# Altium schematic symbol library HYB Modules.SchLib: 2 symbols
Pins are listed as number, name and electrical type; pins without a type are passive.

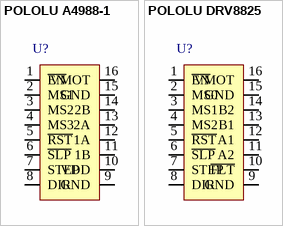
[diagram p0: symbols POLOLU A4988-1 to POLOLU DRV8825]

## POLOLU A4988-1
designator U?
A4988 Stepper Motor Driver Carrier Black Edition Module
footprint POLOLU A4988-1 (A4988 Stepper Motor Driver Carrier Black Edition Module)
pins: 1 ~{EN}, 2 MS1, 3 MS2, 4 MS3, 5 ~{RST}, 6 ~{SLP}, 7 STEP, 8 DIR, 9 GND, 10 VDD, 11 1B, 12 1A, 13 2A, 14 2B, 15 GND, 16 VMOT

## POLOLU DRV8825
designator U?
DRV8825 High Current Stepper Motor Driver Module
footprint POLOLU DRV8825-1 (DRV8825 High Current Stepper Motor Driver Module)
pins: 1 ~{EN}, 2 MS0, 3 MS1, 4 MS2, 5 ~{RST}, 6 ~{SLP}, 7 STEP, 8 DIR, 9 GND, 10 ~{FLT}, 11 A2, 12 A1, 13 B1, 14 B2, 15 GND, 16 VMOT